# EAGLE library part 2X04 (library PiB_connectors)
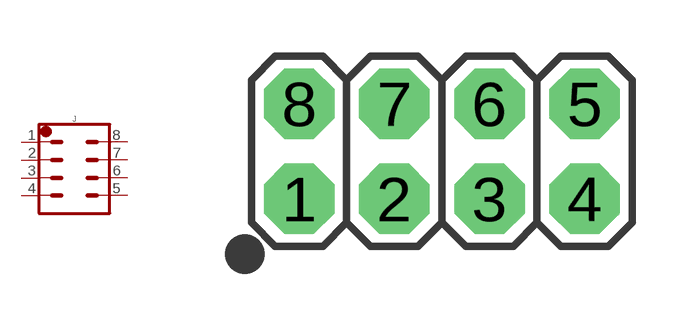
[diagram p9: symbol with the pads of 2X04-VERT-MALE; footprint 2X04-VERT-MALE]

Designator prefix J

## 2X04_VERT-MALE (DATASHEET: https://cdn.amphenol-icc.com/media/wysiwyg/files/drawing/67996.pdf; DIST: Digikey; DISTLINK: https://www.digikey.com/products/en?keywords=609-3235-ND; DISTPN: 609-3235-ND; MFR: Amphenol FCI; MPN: 67997-208HLF; VALUE: 2x03 VERT MALE)  [2X04-VERT-MALE]
1  1  pas
2  2  pas
3  3  pas
4  4  pas
5  5  pas
6  6  pas
7  7  pas
8  8  pas

## Footprint 2X04-VERT-MALE (pad centres in mm)
drill 1.016 pad 1.88 octagon: 1 -3.81,-1.27; 2 -1.27,-1.27; 3 1.27,-1.27; 4 3.81,-1.27; 5 3.81,1.27; 6 1.27,1.27; 7 -1.27,1.27; 8 -3.81,1.27